# EAGLE library part ADXL202EB (library baiyun)
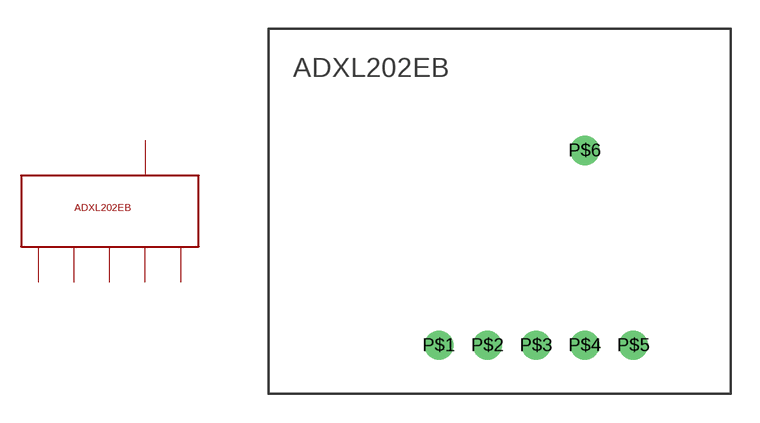
[diagram p202: symbol with the pads of ADXL202EB; footprint ADXL202EB]

Designator prefix -

## ADXL202EB  [ADXL202EB]
P$1  P$1
P$2  P$2
P$3  P$3
P$4  P$4
P$5  P$5
P$6  P$6

## Footprint ADXL202EB (pad centres in mm)
drill 1.016 round: P$1 0,0; P$2 2.54,0; P$3 5.08,0; P$4 7.62,0; P$5 10.16,0; P$6 7.62,10.16